# Altium schematic symbol library lab_6.SchLib: 1 symbol
Pins are listed as number, name and electrical type; pins without a type are passive.

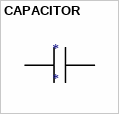
[diagram p0: symbol CAPACITOR]

## CAPACITOR
designator *
pins: 0, 1